# EAGLE library part MCP79410 (library custom_devices)
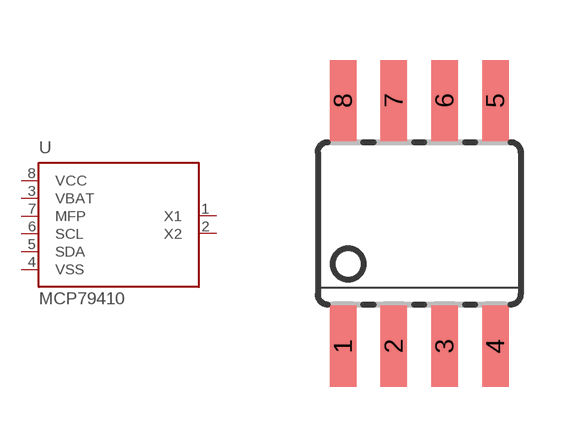
[diagram p0: symbol with the pads of SOIC8; footprint SOIC8]

Designator prefix -

## MCP79410  [SOIC8]
1  X1  in
2  X2  in
3  VBAT  in
4  VSS  pwr
5  SDA
6  SCL  in
7  MFP  out
8  VCC  pwr

## Footprint SOIC8 (pad centres in mm)
smd 0.66 x 2.032: 1 -1.905,-3.073; 2 -0.635,-3.073; 3 0.635,-3.073; 4 1.905,-3.073; 5 1.905,3.073; 6 0.635,3.073; 7 -0.635,3.073; 8 -1.905,3.073